# EAGLE library part PROJEKT_SE5_TPS63020-MODULE (library Library_Łukasz.Skowron)
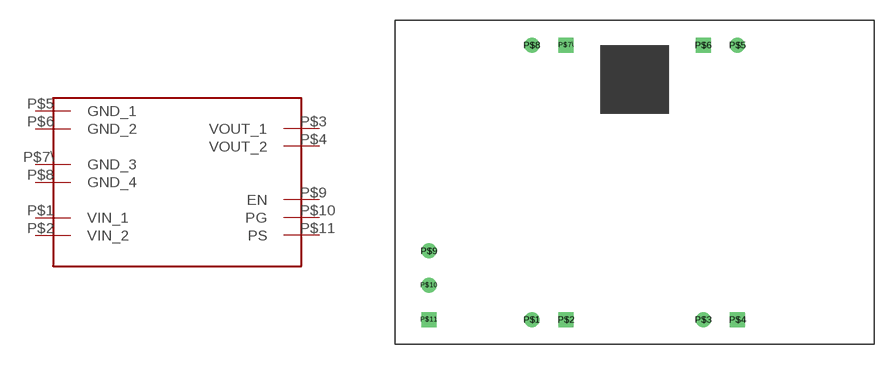
[diagram p1: symbol with the pads of PROJEKT_SE5_TPS63020; footprint PROJEKT_SE5_TPS63020]

Designator prefix -

## PROJEKT_SE5_TPS63020-MODULE  [PROJEKT_SE5_TPS63020]
P$1  VIN_1
P$2  VIN_2  in
P$3  VOUT_1  out
P$4  VOUT_2  out
P$5  GND_1  pwr
P$6  GND_2  pwr
P$7\  GND_3  pwr
P$8  GND_4  pwr
P$9  EN  in
P$10  PG  out
P$11  PS  in

## Footprint PROJEKT_SE5_TPS63020 (pad centres in mm)
drill 0.6: P$1 -7.62,-10.16; P$3 5.08,-10.16; P$5 7.62,10.16; P$8 -7.62,10.16; P$9 -15.24,-5.08; P$10 -15.24,-7.62
drill 0.6 square: P$2 -5.08,-10.16; P$4 7.62,-10.16; P$6 5.08,10.16; P$7\ -5.08,10.16; P$11 -15.24,-10.16